# Altium integrated library WE_WR-TBL_Rising Cage System_7.62 mm_rev15b.IntLib: 24 symbols
Pins are listed as number, name and electrical type; pins without a type are passive.

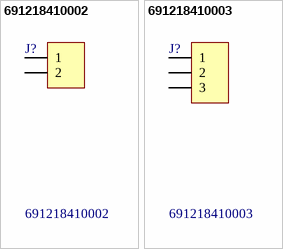
[diagram p0: symbols 691218410002 to 691218410003]

## 691218410002
designator J?
WR-TBL Horizontal Entry Modular with Rising Cage Clamp,Serie 2184 - 7.62 mm; Manufacturer: Würth Elektronik eiSos GmbH; ComponentLink1 Description: Manufacturer; ComponentLink2 Description: Datasheet; NoPins: 2; Created Date: 2 December 2013; partNo: 691218410002; ComponentLink1URL: http://www.we-online.com; ComponentLink2URL: http://katalog.we-online.de/em/datasheet/6912184100xx.pdf; Created by: Karrer Zheng
footprint 691218410002
pins: 1, 2

## 691218410003
designator J?
WR-TBL Horizontal Entry Modular with Rising Cage Clamp,Serie 2184 - 7.62 mm; Manufacturer: Würth Elektronik eiSos GmbH; ComponentLink1 Description: Manufacturer; ComponentLink2 Description: Datasheet; NoPins: 3; Created Date: 2 December 2013; partNo: 691218410003; ComponentLink1URL: http://www.we-online.com; ComponentLink2URL: http://katalog.we-online.de/em/datasheet/6912184100xx.pdf; Created by: Karrer Zheng
footprint 691218410003
pins: 1, 2, 3


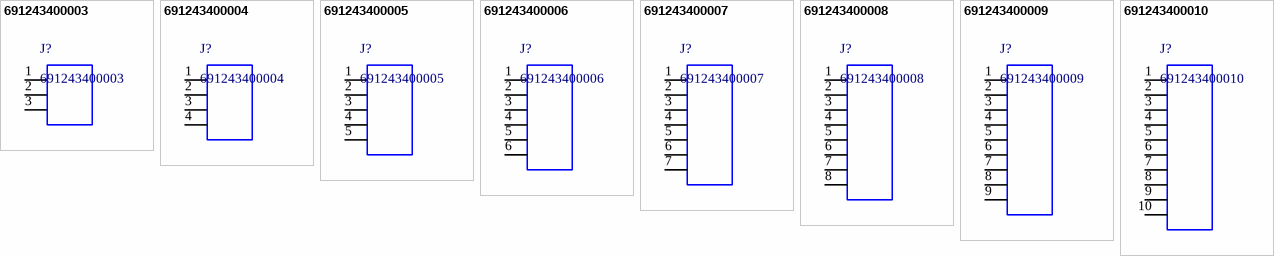
[diagram p1: symbols 691243400003 to 691243400010]

## 691243400003
designator J?
WR-TBL Horizontal Cable Entry With Rising Cage Clamp,Serie 2434 - 7.62 mm; Manufacturer: Wurth Elektronik; ComponentLink1 Description: Manufacturer; ComponentLink2 Description: Datasheet; ComponentLink1URL: http://www.we-online.de; ComponentLink2URL: http://katalog.we-online.de/em/datasheet/6912434000xx.pdf; Created by: Baojun Chen; Created Date: 12.Sep.2015; partNo: 691243400003
footprint 691243400003 (Serie 2434 - 7.62 mm _ 3 pins)
pins: 1, 2, 3

## 691243400004
designator J?
WR-TBL Horizontal Cable Entry With Rising Cage Clamp,Serie 2434 - 7.62 mm; Manufacturer: Wurth Elektronik; ComponentLink1 Description: Manufacturer; ComponentLink2 Description: Datasheet; ComponentLink1URL: http://www.we-online.de; ComponentLink2URL: http://katalog.we-online.de/em/datasheet/6912434000xx.pdf; Created by: Baojun Chen; Created Date: 12.Sep.2015; partNo: 691243400004
footprint 691243400004 (Serie 2434 - 7.62 mm _ 4 pins)
pins: 1, 2, 3, 4

## 691243400005
designator J?
WR-TBL Horizontal Cable Entry With Rising Cage Clamp,Serie 2434 - 7.62 mm; Manufacturer: Wurth Elektronik; ComponentLink1 Description: Manufacturer; ComponentLink2 Description: Datasheet; ComponentLink1URL: http://www.we-online.de; ComponentLink2URL: http://katalog.we-online.de/em/datasheet/6912434000xx.pdf; Created by: Baojun Chen; Created Date: 12.Sep.2015; partNo: 691243400005
footprint 691243400005 (Serie 2434 - 7.62 mm _ 5 pins)
pins: 1, 2, 3, 4, 5

## 691243400006
designator J?
WR-TBL Horizontal Cable Entry With Rising Cage Clamp,Serie 2434 - 7.62 mm; Manufacturer: Wurth Elektronik; ComponentLink1 Description: Manufacturer; ComponentLink2 Description: Datasheet; ComponentLink1URL: http://www.we-online.de; ComponentLink2URL: http://katalog.we-online.de/em/datasheet/6912434000xx.pdf; Created by: Baojun Chen; Created Date: 12.Sep.2015; partNo: 691243400006
footprint 691243400006 (Serie 2434 - 7.62 mm _ 6 pins)
pins: 1, 2, 3, 4, 5, 6

## 691243400007
designator J?
WR-TBL Horizontal Cable Entry With Rising Cage Clamp,Serie 2434 - 7.62 mm; Manufacturer: Wurth Elektronik; ComponentLink1 Description: Manufacturer; ComponentLink2 Description: Datasheet; ComponentLink1URL: http://www.we-online.de; ComponentLink2URL: http://katalog.we-online.de/em/datasheet/6912434000xx.pdf; Created by: Baojun Chen; Created Date: 12.Sep.2015; partNo: 691243400007
footprint 691243400007 (Serie 2434 - 7.62 mm _ 7 pins)
pins: 1, 2, 3, 4, 5, 6, 7

## 691243400008
designator J?
WR-TBL Horizontal Cable Entry With Rising Cage Clamp,Serie 2434 - 7.62 mm; Manufacturer: Wurth Elektronik; ComponentLink1 Description: Manufacturer; ComponentLink2 Description: Datasheet; ComponentLink1URL: http://www.we-online.de; ComponentLink2URL: http://katalog.we-online.de/em/datasheet/6912434000xx.pdf; Created by: Baojun Chen; Created Date: 12.Sep.2015; partNo: 691243400008
footprint 691243400008 (Serie 2434 - 7.62 mm _ 8 pins)
pins: 1, 2, 3, 4, 5, 6, 7, 8

## 691243400009
designator J?
WR-TBL Horizontal Cable Entry With Rising Cage Clamp,Serie 2434 - 7.62 mm; Manufacturer: Wurth Elektronik; ComponentLink1 Description: Manufacturer; ComponentLink2 Description: Datasheet; ComponentLink1URL: http://www.we-online.de; ComponentLink2URL: http://katalog.we-online.de/em/datasheet/6912434000xx.pdf; Created by: Baojun Chen; Created Date: 12.Sep.2015; partNo: 691243400009
footprint 691243400009 (Serie 2434 - 7.62 mm _ 9 pins)
pins: 1, 2, 3, 4, 5, 6, 7, 8, 9

## 691243400010
designator J?
WR-TBL Horizontal Cable Entry With Rising Cage Clamp,Serie 2434 - 7.62 mm; Manufacturer: Wurth Elektronik; ComponentLink1 Description: Manufacturer; ComponentLink2 Description: Datasheet; ComponentLink1URL: http://www.we-online.de; ComponentLink2URL: http://katalog.we-online.de/em/datasheet/6912434000xx.pdf; Created by: Baojun Chen; Created Date: 12.Sep.2015; partNo: 691243400010
footprint 691243400010 (Serie 2434 - 7.62 mm _ 10 pins)
pins: 1, 2, 3, 4, 5, 6, 7, 8, 9, 10


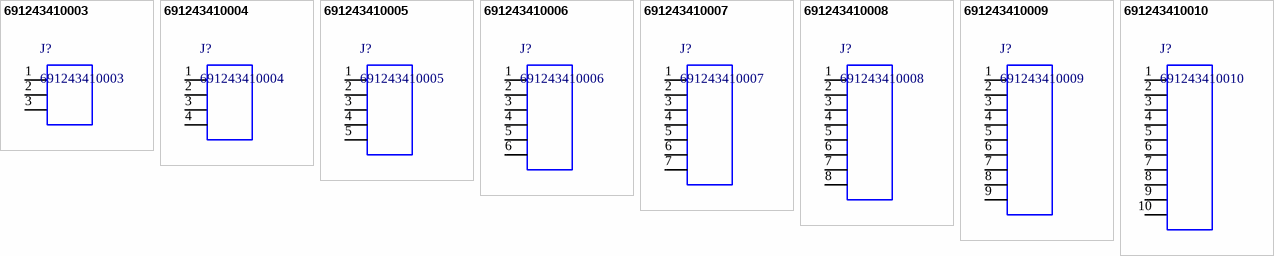
[diagram p2: symbols 691243410003 to 691243410010]

## 691243410003
designator J?
WR-TBL Vertical Cable Entry With Rising Cage Clamp,Serie 2434 - 7.62 mm; Manufacturer: Wurth Elektronik; ComponentLink1 Description: Manufacturer; ComponentLink2 Description: Datasheet; ComponentLink1URL: http://www.we-online.de; ComponentLink2URL: http://katalog.we-online.de/em/datasheet/6912434100xx.pdf; Created by: Baojun Chen; Created Date: 12.Sep.2015; partNo: 691243410003
footprint 691243410003 (Serie 2434 - 7.62 mm _ 3 pins)
pins: 1, 2, 3

## 691243410004
designator J?
WR-TBL Vertical Cable Entry With Rising Cage Clamp,Serie 2434 - 7.62 mm; Manufacturer: Wurth Elektronik; ComponentLink1 Description: Manufacturer; ComponentLink2 Description: Datasheet; ComponentLink1URL: http://www.we-online.de; ComponentLink2URL: http://katalog.we-online.de/em/datasheet/6912434100xx.pdf; Created by: Baojun Chen; Created Date: 12.Sep.2015; partNo: 691243410004
footprint 691243410004 (Serie 2434 - 7.62 mm _ 4 pins)
pins: 1, 2, 3, 4

## 691243410005
designator J?
WR-TBL Vertical Cable Entry With Rising Cage Clamp,Serie 2434 - 7.62 mm; Manufacturer: Wurth Elektronik; ComponentLink1 Description: Manufacturer; ComponentLink2 Description: Datasheet; ComponentLink1URL: http://www.we-online.de; ComponentLink2URL: http://katalog.we-online.de/em/datasheet/6912434100xx.pdf; Created by: Baojun Chen; Created Date: 12.Sep.2015; partNo: 691243410005
footprint 691243410005 (Serie 2434 - 7.62 mm _ 5 pins)
pins: 1, 2, 3, 4, 5

## 691243410006
designator J?
WR-TBL Vertical Cable Entry With Rising Cage Clamp,Serie 2434 - 7.62 mm; Manufacturer: Wurth Elektronik; ComponentLink1 Description: Manufacturer; ComponentLink2 Description: Datasheet; ComponentLink1URL: http://www.we-online.de; ComponentLink2URL: http://katalog.we-online.de/em/datasheet/6912434100xx.pdf; Created by: Baojun Chen; Created Date: 12.Sep.2015; partNo: 691243410006
footprint 691243410006 (Serie 2434 - 7.62 mm _ 6 pins)
pins: 1, 2, 3, 4, 5, 6

## 691243410007
designator J?
WR-TBL Vertical Cable Entry With Rising Cage Clamp,Serie 2434 - 7.62 mm; Manufacturer: Wurth Elektronik; ComponentLink1 Description: Manufacturer; ComponentLink2 Description: Datasheet; ComponentLink1URL: http://www.we-online.de; ComponentLink2URL: http://katalog.we-online.de/em/datasheet/6912434100xx.pdf; Created by: Baojun Chen; Created Date: 12.Sep.2015; partNo: 691243410007
footprint 691243410007 (Serie 2434 - 7.62 mm _ 7 pins)
pins: 1, 2, 3, 4, 5, 6, 7

## 691243410008
designator J?
WR-TBL Vertical Cable Entry With Rising Cage Clamp,Serie 2434 - 7.62 mm; Manufacturer: Wurth Elektronik; ComponentLink1 Description: Manufacturer; ComponentLink2 Description: Datasheet; ComponentLink1URL: http://www.we-online.de; ComponentLink2URL: http://katalog.we-online.de/em/datasheet/6912434100xx.pdf; Created by: Baojun Chen; Created Date: 12.Sep.2015; partNo: 691243410008
footprint 691243410008 (Serie 2434 - 7.62 mm _ 8 pins)
pins: 1, 2, 3, 4, 5, 6, 7, 8

## 691243410009
designator J?
WR-TBL Vertical Cable Entry With Rising Cage Clamp,Serie 2434 - 7.62 mm; Manufacturer: Wurth Elektronik; ComponentLink1 Description: Manufacturer; ComponentLink2 Description: Datasheet; ComponentLink1URL: http://www.we-online.de; ComponentLink2URL: http://katalog.we-online.de/em/datasheet/6912434100xx.pdf; Created by: Baojun Chen; Created Date: 12.Sep.2015; partNo: 691243410009
footprint 691243410009 (Serie 2434 - 7.62 mm _ 9 pins)
pins: 1, 2, 3, 4, 5, 6, 7, 8, 9

## 691243410010
designator J?
WR-TBL Vertical Cable Entry With Rising Cage Clamp,Serie 2434 - 7.62 mm; Manufacturer: Wurth Elektronik; ComponentLink1 Description: Manufacturer; ComponentLink2 Description: Datasheet; ComponentLink1URL: http://www.we-online.de; ComponentLink2URL: http://katalog.we-online.de/em/datasheet/6912434100xx.pdf; Created by: Baojun Chen; Created Date: 12.Sep.2015; partNo: 691243410010
footprint 691243410010 (Serie 2434 - 7.62 mm _ 10 pins)
pins: 1, 2, 3, 4, 5, 6, 7, 8, 9, 10


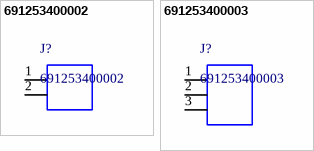
[diagram p3: symbols 691253400002 to 691253400003]

## 691253400002
designator J?
WR-TBL Vertical Cable Entry With Rising Cage Clamp,Serie 2534 - 7.62 mm; Manufacturer: Wurth Elektronik; ComponentLink1 Description: Manufacturer; ComponentLink2 Description: Datasheet; ComponentLink1URL: http://www.we-online.de; ComponentLink2URL: http://katalog.we-online.de/em/datasheet/6912534000xx.pdf; Created by: Baojun Chen; Created Date: 15.Sep.2015; partNo: 691253400002
footprint 691253400002 (Serie 2534 - 7.62 mm _ 2 pins)
pins: 1, 2

## 691253400003
designator J?
WR-TBL Vertical Cable Entry With Rising Cage Clamp,Serie 2534 - 7.62 mm; Manufacturer: Wurth Elektronik; ComponentLink1 Description: Manufacturer; ComponentLink2 Description: Datasheet; ComponentLink1URL: http://www.we-online.de; ComponentLink2URL: http://katalog.we-online.de/em/datasheet/6912534000xx.pdf; Created by: Baojun Chen; Created Date: 15.Sep.2015; partNo: 691253400003
footprint 691253400003 (Serie 2534 - 7.62 mm _ 3 pins)
pins: 1, 2, 3


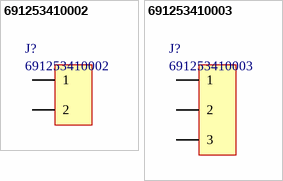
[diagram p4: symbols 691253410002 to 691253410003]

## 691253410002
designator J?
Horizontal Cable Entry with Rising Cage Clamp, Serie 2534 - 7.62mm; Manufacturer: Wurth Elektronik; ComponentLink1 Description: Manufacturer; ComponentLink2 Description: Datasheet; NoPins: 2; ComponentLink1 URL: http://www.we-online.com; ComponentLink2 URL: http://katalog.we-online.de/em/datasheet/6912534100xx.pdf; Created By: Baojun Chen; Created Date: 27.Aug.2015; PartNo: 691253410002
footprint 691253410002 (Serie 2534 - 7.62 mm _ 2 pins)
pins: 1, 2

## 691253410003
designator J?
Horizontal Cable Entry with Rising Cage Clamp, Serie 2534 - 7.62mm; Manufacturer: Wurth Elektronik; ComponentLink1 Description: Manufacturer; ComponentLink2 Description: Datasheet; NoPins: 3; ComponentLink1 URL: http://www.we-online.com; ComponentLink2 URL: http://katalog.we-online.de/em/datasheet/6912534100xx.pdf; Created By: Baojun Chen; Created Date: 27.Aug.2015; PartNo: 691253410003
footprint 691253410003 (Serie 2534 - 7.62 mm _ 3 pins)
pins: 1, 2, 3


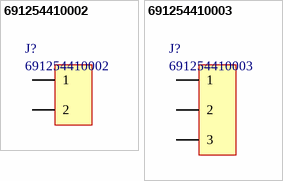
[diagram p5: symbols 691254410002 to 691254410003]

## 691254410002
designator J?
Horizontal Cable Entry with Rising Cage Clamp, Serie 2544 - 7.62mm; Manufacturer: Wurth Elektronik; ComponentLink1 Description: Manufacturer; ComponentLink2 Description: Datasheet; NoPins: 2; ComponentLink1 URL: http://www.we-online.com; ComponentLink2 URL: http://katalog.we-online.de/em/datasheet/6912544100xx.pdf; Created By: Baojun Chen; Created Date: 29.Aug.2015; PartNo: 691254410002
footprint 691254410002 (Serie 2544 - 7.62 mm _ 2 pins)
pins: 1, 2

## 691254410003
designator J?
Horizontal Cable Entry with Rising Cage Clamp, Serie 2544 - 7.62mm; Manufacturer: Wurth Elektronik; ComponentLink1 Description: Manufacturer; ComponentLink2 Description: Datasheet; NoPins: 3; ComponentLink1 URL: http://www.we-online.com; ComponentLink2 URL: http://katalog.we-online.de/em/datasheet/6912544100xx.pdf; Created By: Baojun Chen; Created Date: 29.Aug.2015; PartNo: 691254410003
footprint 691254410003 (Serie 2544 - 7.62 mm _ 3 pins)
pins: 1, 2, 3